# Altium schematic symbol library U_79Lxx_SOIC8.SchLib: 1 symbol
Pins are listed as number, name and electrical type; pins without a type are passive.

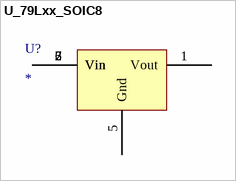
[diagram p0: symbol U_79Lxx_SOIC8]

## U_79Lxx_SOIC8
designator U?
pins: 1 Vout, 2 Vin, 3 Vin, 5 Gnd, 6 Vin, 7 Vin